# Altium footprint library LED_SMD.PcbLib: 82 footprints (part 6 of 6)
Each footprint in its own frame and in the unit in brackets; x right, y up, seen from the top. Pads: shape width x height; smd on the part's side, far side on the other; paste and mask are expansions set on the pad; w line width, h text height; cw(c..) or ccw(c..) is an arc to the next point about the centre after c.
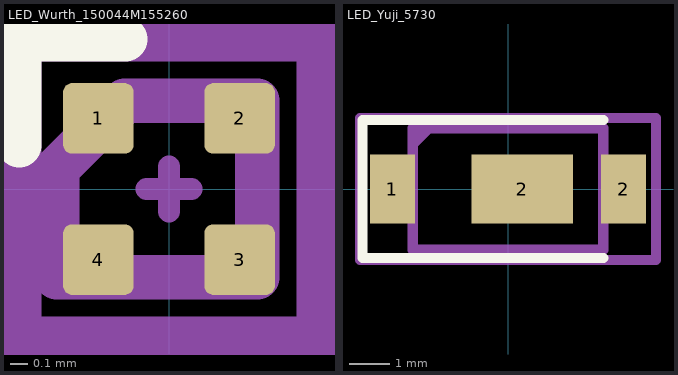
[diagram p5: the footprints below, top view; thin cyan lines are the x and y axes]

## LED_Wurth_150044M155260 [mm] "LED_Wurth_150044M155260"
pads (4):
  rrect25% 0.4x0.4 smd: 1(-0.4,0.4) 2(0.4,0.4) 3(0.4,-0.4) 4(-0.4,-0.4)
F.SilkS:
  lines w0.254: -0.85,0.25 -0.85,0.85 -0.25,0.85
Top Component Center:
  lines w0.127: -0.127,0 0.127,0 ; 0,-0.127 0,0.127
Top Assembly:
  lines w0.254: -0.635,-0.5 0.5,-0.5 0.5,0.5 -0.25,0.5 -0.635,0.115 -0.635,-0.5
Top Courtyard:
  lines w0.254: -0.85,-0.85 0.85,-0.85 0.85,0.85 -0.85,0.85 -0.85,-0.85
Top Designator:
  text ".Designator" at -1.127,-0.113 h0.5

## LED_Yuji_5730 [mm] "LED_Yuji_5730"
pads (3):
  rect 1.1x1.7 smd: 1(-2.85,0) 2(2.85,0)
  rect 2.5x1.7 smd: 2(0.35,0)
F.SilkS:
  lines w0.254: 2.35,-1.7 -3.59,-1.7 -3.59,1.7 2.35,1.7
Top Component Center:
  lines w0.127: -0.127,0 0.127,0 ; 0,-0.127 0,0.127
Top Assembly:
  lines w0.254: -2.35,1.1 -1.95,1.5 ; -2.35,-1.5 2.35,-1.5 2.35,1.5 -2.35,1.5 -2.35,-1.5
Top Courtyard:
  lines w0.254: -3.65,-1.75 3.65,-1.75 3.65,1.75 -3.65,1.75 -3.65,-1.75
Top Designator:
  text ".Designator" at -3.38,-0.339 h1.5